# Altium footprint library IND_CDRH.PcbLib: 6 footprints
Each footprint in its own frame and in the unit in brackets; x right, y up, seen from the top. Pads: shape width x height; smd on the part's side, far side on the other; paste and mask are expansions set on the pad; w line width, h text height; cw(c..) or ccw(c..) is an arc to the next point about the centre after c.
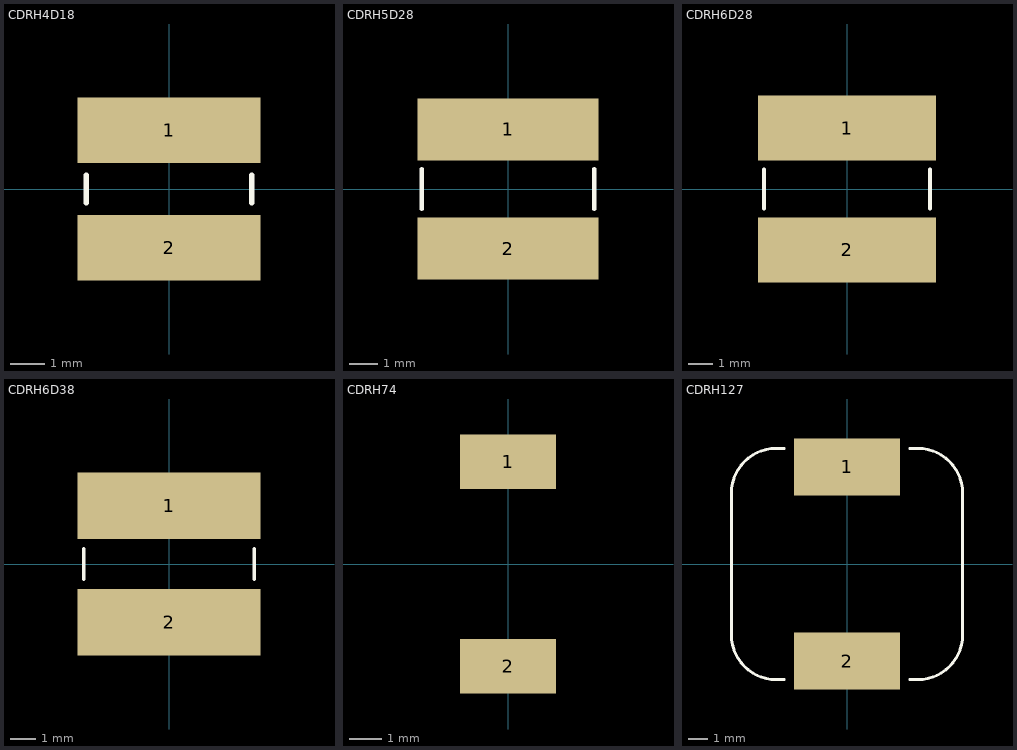
[diagram p0: the footprints below, top view; thin cyan lines are the x and y axes]

## CDRH4D18 [mm]
pads (2):
  rect 5.3x1.9 smd: 1(0,1.7) 2(0,-1.7)
Top Overlay:
  lines w0.15: -2.4,-0.4 -2.4,0.4 ; 2.4,-0.4 2.4,0.4
3D body "CDRH4D18.STEP": height 2, standoff 0, extent -2.4,-2.4 2.4,2.4

## CDRH5D28 [mm]
pads (2):
  rect 6.3x2.15 smd: 1(0,2.075) 2(0,-2.075)
Top Overlay:
  lines w0.15: -3,-0.7 -3,0.7 ; 3,-0.7 3,0.7
3D body "cdrh5d28.STEP": height 2.9, standoff -0.1, extent -3,-3 3,3

## CDRH6D28 [mm]
pads (2):
  rect 7.3x2.65 smd: 1(0,2.5) 2(0,-2.5)
Top Overlay:
  lines w0.15: -3.4,-0.8 -3.4,0.8 ; 3.4,-0.8 3.4,0.8
3D body "SUMIDA-CDRH6D28.STEP": height -0.5, standoff -3.4, extent -3.35,-3.35 3.35,3.35

## CDRH6D38 [mm]
pads (2):
  rect 7.3x2.65 smd: 1(0,2.325) 2(0,-2.325)
Top Overlay:
  lines w0.15: -3.4,-0.6 -3.4,0.6 ; 3.4,-0.6 3.4,0.6
3D body "SUMIDA-CDRH6D28.STEP": height -0.5, standoff -3.4, extent -3.35,-3.35 3.35,3.35

## CDRH74 [mm]
pads (2):
  rect 3x1.7 smd: 1(0,3.2) 2(0,-3.2)
3D body "CDRH74NP-220MC.STEP": height 4.5, standoff 0, extent -3.65,-3.65 3.65,3.65

## CDRH127 [mm]
pads (2):
  rect 5.4x2.9 smd: 1(0,4.95) 2(0,-4.95)
Top Overlay:
  lines w0.15: -3.2,-5.9 -3.606,-5.9 cw(c-3.606,-3.606) -5.9,-3.606 -5.9,3.606 cw(c-3.606,3.606) -3.606,5.9 -3.2,5.9 ; 3.2,-5.9 3.606,-5.9 ccw(c3.606,-3.606) 5.9,-3.606 5.9,3.606 ccw(c3.606,3.606) 3.606,5.9 3.2,5.9
3D body "CDRH127.STEP": height 8, standoff 0, extent -6,-6 6,6